# Altium footprint library B3AL.PcbLib: 2 footprints
Each footprint in its own frame and in the unit in brackets; x right, y up, seen from the top. Pads: shape width x height; smd on the part's side, far side on the other; paste and mask are expansions set on the pad; w line width, h text height; cw(c..) or ccw(c..) is an arc to the next point about the centre after c.
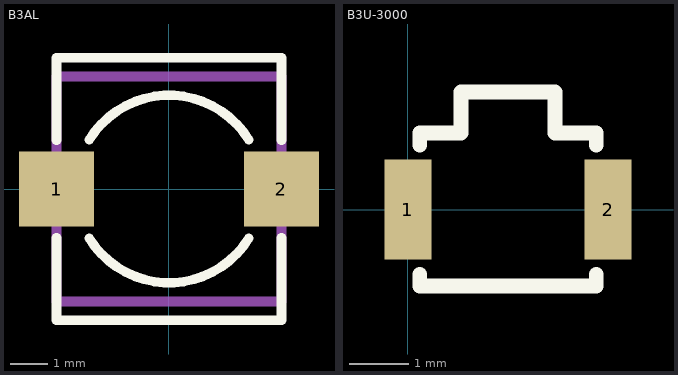
[diagram p0: the footprints below, top view; thin cyan lines are the x and y axes]

## B3AL [mm] "B3AL button"
height 5
pads (2):
  rect 2x2 smd: 1(-3,0) 2(3,0)
Top Overlay:
  lines w0.254: -3,-1.3 -3,-3.5 3,-3.5 3,-1.3 ; -3,1.3 -3,3.5 3,3.5 3,1.3 ; -2.126,-1.316 ccw(c0,0) 2.126,-1.316 ; -2.126,1.316 cw(c0,0) 2.126,1.316
Mechanical 1:
  lines w0.254: -3,-3 -3,3 3,3 3,-3 -3,-3
3D body: height 5, standoff 0, extent -3.127,-3.127 3.127,3.127

## B3U-3000 [mm] "B3U-3000"
height 1.2
pads (2):
  rect 0.8x1.7 smd: 1(0,0) 2(3.4,0)
Top Overlay:
  lines w0.254: 0.2,-1.1 0.2,-1.3 3.2,-1.3 3.2,-1.1 ; 0.2,1.1 0.2,1.3 0.9,1.3 0.9,2 2.5,2 2.5,1.3 3.2,1.3 3.2,1.1